# Altium integrated library Microchip SST Flash.IntLib: 291 symbols (part 1 of 37)
Pins are listed as number, name and electrical type; pins without a type are passive.

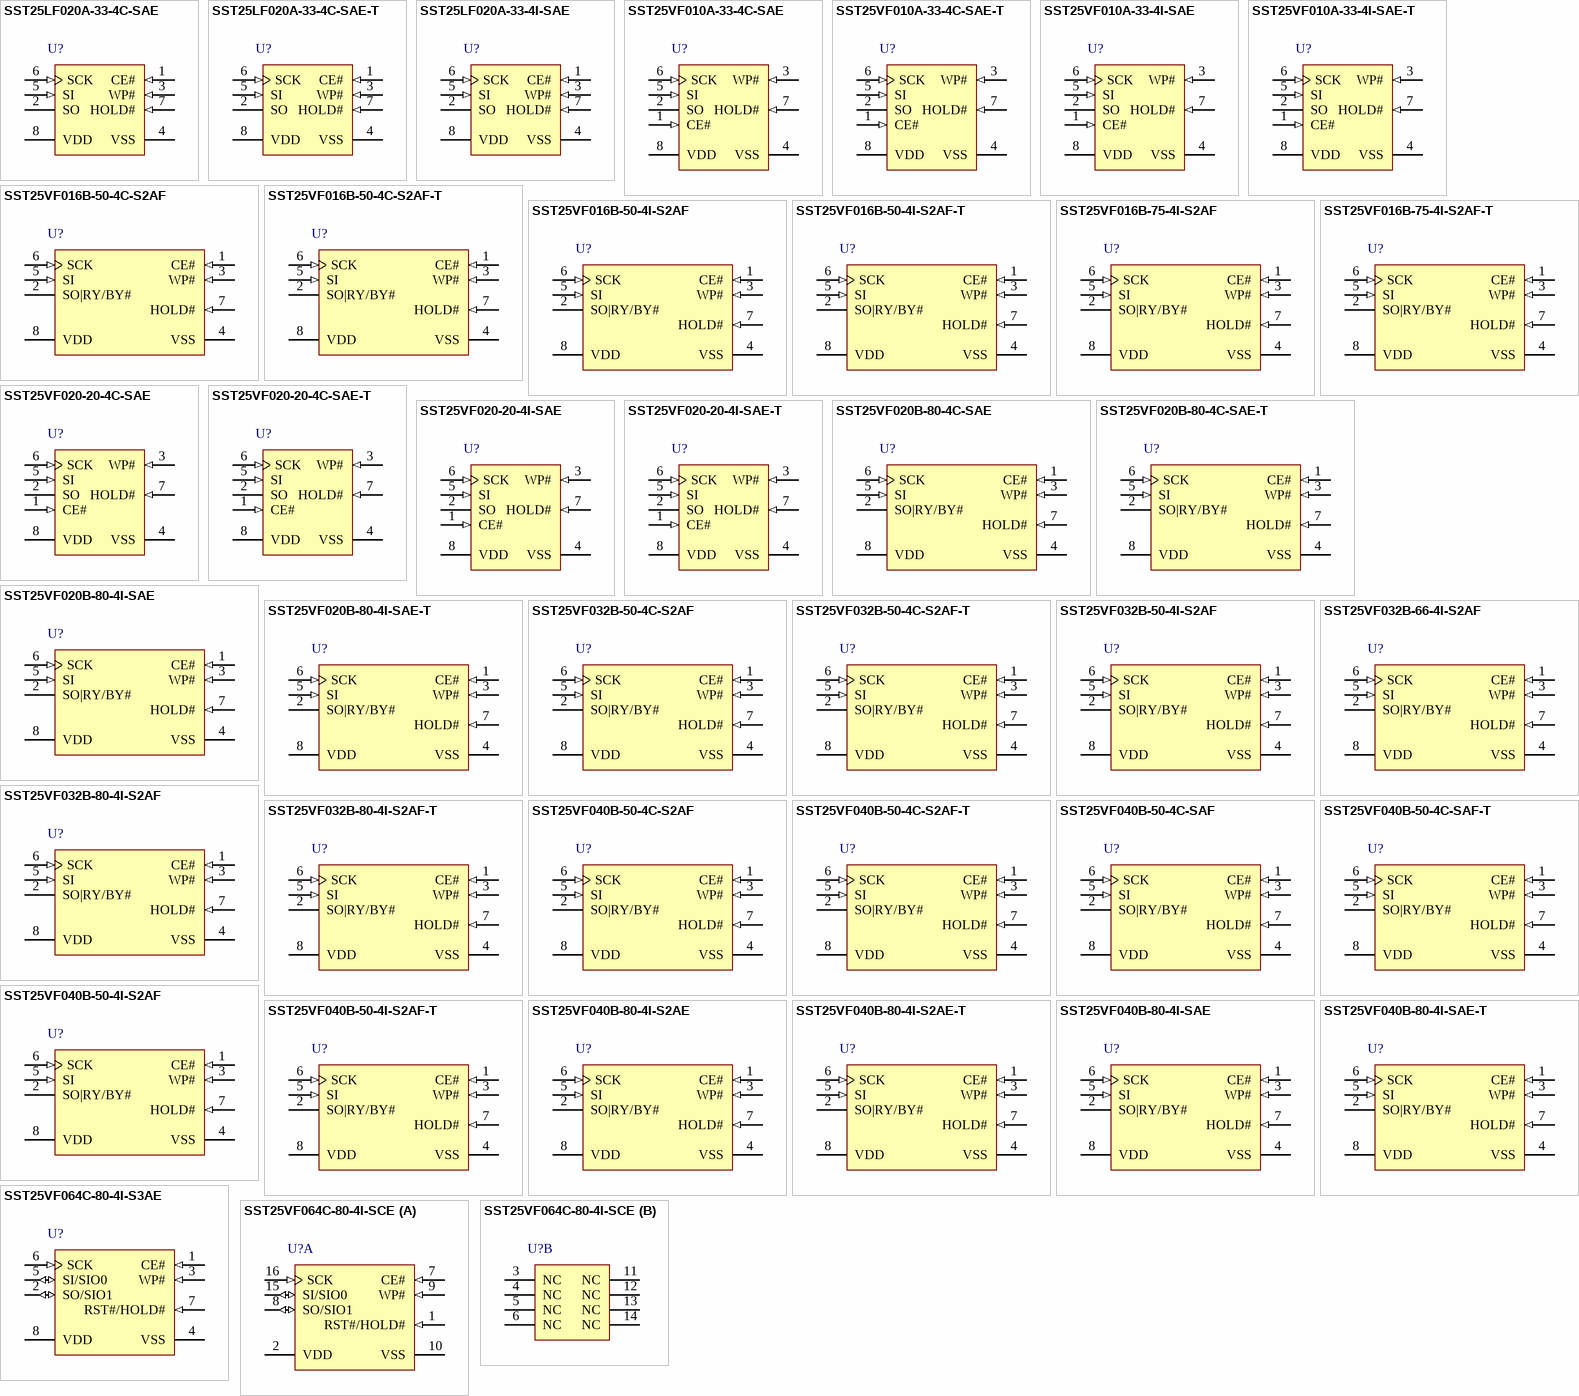
[diagram p0: symbols SST25LF020A-33-4C-SAE to SST25VF064C-80-4I-SCE]

## SST25LF020A-33-4C-SAE
designator U?
2 Mbit SPI Serial Flash, 3 to 3.6 V, 33 MHz, 0 to 70 degC, 8-pin SOIC (SA8), Tube; Manufacturer: Microchip; PartNumber: SST25LF020A-33-4C-SAE; DatasheetVersion: Rev. A; PackageVersion: Rev. A; PackageReference: SOIC-SA8; PackageDescription: 8-Lead Plastic Small Outline, 4.9 x 3.9 mm Body, 1.27 mm Pitch; Supplier 1: Digi-Key; Supplier Part Number 1: SST25LF020A-33-4C-SAE-ND; Mounting Technology: Surface Mount; Code_JEDEC: MS-012; ComponentLink1Description: Manufacturer URL; ComponentLink1URL: http://www.microchip.com; ComponentLink2Description: Datasheet; ComponentLink2URL: http://ww1.microchip.com/downloads/en/DeviceDoc/25080A.pdf; ComponentLink3Description: Package Specification; ComponentLink3URL: http://ww1.microchip.com/downloads/en/DeviceDoc/25080A.pdf; ComponentLink4Description: Product URL; ComponentLink4URL: http://www.microchip.com/SST25LF020A
footprint MCHP-SOIC-SA8_N (SOIC, 8-Leads, Body 4.9x3.9mm, Pitch 1.27mm, IPC Medium Density)
footprint MCHP-SOIC-SA8_L (SOIC, 8-Leads, Body 4.9x3.9mm, Pitch 1.27mm, IPC High Density)
footprint MCHP-SOIC-SA8_M (SOIC, 8-Leads, Body 4.9x3.9mm, Pitch 1.27mm, IPC Low Density)
pins: 1 CE# (in) "The device is enabled by a high to low transition on CE#. CE# must remain low for the duration of any command sequence.", 2 SO (hiz) "To transfer data serially out of the device. Data is shifted out on the falling edge of the serial clock.", 3 WP# (in) "The Write Protect (WP#) pin is used to enable/disable BPL bit in the status register.", 4 VSS (power), 5 SI (in) "To transfer commands, addresses, or data serially into the device. Inputs are latched on the rising edge of the serial clock.", 6 SCK (in) "To provide the timing of the serial interface. Commands, addresses, or input data are latched on the rising edge of the clock input, while output data is shifted out on the falling edge of the clock input.", 7 HOLD# (in) "To temporarily stop serial communication with SPI flash memory without resetting the device.", 8 VDD (power) "To provide power supply (3.0-3.6V)."

## SST25LF020A-33-4C-SAE-T
designator U?
2 Mbit SPI Serial Flash, 3 to 3.6 V, 33 MHz, 0 to 70 degC, 8-pin SOIC (SA8), Tape and Reel; Manufacturer: Microchip; PartNumber: SST25LF020A-33-4C-SAE-T; DatasheetVersion: Rev. A; PackageVersion: Rev. A; PackageReference: SOIC-SA8; PackageDescription: 8-Lead Plastic Small Outline, 4.9 x 3.9 mm Body, 1.27 mm Pitch; Supplier 1: Digi-Key; Supplier Part Number 1: SST25LF020A-33-4C-SAE-T-ND; Mounting Technology: Surface Mount; Code_JEDEC: MS-012; ComponentLink1Description: Manufacturer URL; ComponentLink1URL: http://www.microchip.com; ComponentLink2Description: Datasheet; ComponentLink2URL: http://ww1.microchip.com/downloads/en/DeviceDoc/25080A.pdf; ComponentLink3Description: Package Specification; ComponentLink3URL: http://ww1.microchip.com/downloads/en/DeviceDoc/25080A.pdf; ComponentLink4Description: Product URL; ComponentLink4URL: http://www.microchip.com/SST25LF020A
footprint MCHP-SOIC-SA8_N (SOIC, 8-Leads, Body 4.9x3.9mm, Pitch 1.27mm, IPC Medium Density)
footprint MCHP-SOIC-SA8_L (SOIC, 8-Leads, Body 4.9x3.9mm, Pitch 1.27mm, IPC High Density)
footprint MCHP-SOIC-SA8_M (SOIC, 8-Leads, Body 4.9x3.9mm, Pitch 1.27mm, IPC Low Density)
pins: 1 CE# (in) "The device is enabled by a high to low transition on CE#. CE# must remain low for the duration of any command sequence.", 2 SO (hiz) "To transfer data serially out of the device. Data is shifted out on the falling edge of the serial clock.", 3 WP# (in) "The Write Protect (WP#) pin is used to enable/disable BPL bit in the status register.", 4 VSS (power), 5 SI (in) "To transfer commands, addresses, or data serially into the device. Inputs are latched on the rising edge of the serial clock.", 6 SCK (in) "To provide the timing of the serial interface. Commands, addresses, or input data are latched on the rising edge of the clock input, while output data is shifted out on the falling edge of the clock input.", 7 HOLD# (in) "To temporarily stop serial communication with SPI flash memory without resetting the device.", 8 VDD (power) "To provide power supply (3.0-3.6V)."

## SST25LF020A-33-4I-SAE
designator U?
2 Mbit SPI Serial Flash, 3 to 3.6 V, 33 MHz, -40 to 85 degC, 8-pin SOIC (SA8), Tube; Manufacturer: Microchip; PartNumber: SST25LF020A-33-4I-SAE; DatasheetVersion: Rev. A; PackageVersion: Rev. A; PackageReference: SOIC-SA8; PackageDescription: 8-Lead Plastic Small Outline, 4.9 x 3.9 mm Body, 1.27 mm Pitch; Supplier 1: Digi-Key; Supplier Part Number 1: SST25LF020A-33-4I-SAE-ND; Mounting Technology: Surface Mount; Code_JEDEC: MS-012; ComponentLink1Description: Manufacturer URL; ComponentLink1URL: http://www.microchip.com; ComponentLink2Description: Datasheet; ComponentLink2URL: http://ww1.microchip.com/downloads/en/DeviceDoc/25080A.pdf; ComponentLink3Description: Package Specification; ComponentLink3URL: http://ww1.microchip.com/downloads/en/DeviceDoc/25080A.pdf; ComponentLink4Description: Product URL; ComponentLink4URL: http://www.microchip.com/SST25LF020A
footprint MCHP-SOIC-SA8_N (SOIC, 8-Leads, Body 4.9x3.9mm, Pitch 1.27mm, IPC Medium Density)
footprint MCHP-SOIC-SA8_L (SOIC, 8-Leads, Body 4.9x3.9mm, Pitch 1.27mm, IPC High Density)
footprint MCHP-SOIC-SA8_M (SOIC, 8-Leads, Body 4.9x3.9mm, Pitch 1.27mm, IPC Low Density)
pins: 1 CE# (in) "The device is enabled by a high to low transition on CE#. CE# must remain low for the duration of any command sequence.", 2 SO (hiz) "To transfer data serially out of the device. Data is shifted out on the falling edge of the serial clock.", 3 WP# (in) "The Write Protect (WP#) pin is used to enable/disable BPL bit in the status register.", 4 VSS (power), 5 SI (in) "To transfer commands, addresses, or data serially into the device. Inputs are latched on the rising edge of the serial clock.", 6 SCK (in) "To provide the timing of the serial interface. Commands, addresses, or input data are latched on the rising edge of the clock input, while output data is shifted out on the falling edge of the clock input.", 7 HOLD# (in) "To temporarily stop serial communication with SPI flash memory without resetting the device.", 8 VDD (power) "To provide power supply (3.0-3.6V)."

## SST25VF010A-33-4C-SAE
designator U?
1 Mbit SPI Serial Flash, 2.7 to 3.6 V, 33 MHz, 0 to 70 degC, 8-pin SOIC (SA8), Tube; Manufacturer: Microchip; PartNumber: SST25VF010A-33-4C-SAE; DatasheetVersion: Rev. A; PackageVersion: Rev. A; PackageReference: SOIC-SA8; PackageDescription: 8-Lead Plastic Small Outline, 4.9 x 3.9 mm Body, 1.27 mm Pitch; Supplier 1: Digi-Key; Supplier Part Number 1: SST25VF010A-33-4C-SAE-ND; Mounting Technology: Surface Mount; Code_JEDEC: MS-012; ComponentLink1Description: Manufacturer URL; ComponentLink1URL: http://www.microchip.com; ComponentLink2Description: Datasheet; ComponentLink2URL: http://ww1.microchip.com/downloads/en/DeviceDoc/25081A.pdf; ComponentLink3Description: Package Specification; ComponentLink3URL: http://ww1.microchip.com/downloads/en/DeviceDoc/25080A.pdf; ComponentLink4Description: Product URL; ComponentLink4URL: http://www.microchip.com/SST25VF010A
footprint MCHP-SOIC-SA8_N (SOIC, 8-Leads, Body 4.9x3.9mm, Pitch 1.27mm, IPC Medium Density)
footprint MCHP-SOIC-SA8_L (SOIC, 8-Leads, Body 4.9x3.9mm, Pitch 1.27mm, IPC High Density)
footprint MCHP-SOIC-SA8_M (SOIC, 8-Leads, Body 4.9x3.9mm, Pitch 1.27mm, IPC Low Density)
pins: 1 CE# (in) "The device is enabled by a high to low transition on CE#. CE# must remain low for the duration of any command sequence.", 2 SO (hiz) "To transfer data serially out of the device. Data is shifted out on the falling edge of the serial clock.", 3 WP# (in) "The Write Protect (WP#) pin is used to enable/disable BPL bit in the status register.", 4 VSS (power) "Ground", 5 SI (in) "To transfer commands, addresses, or data serially into the device. Inputs are latched on the rising edge of the serial clock.", 6 SCK (in) "To provide the timing of the serial interface. Commands, addresses, or input data are latched on the rising edge of the clock input, while output data is shifted out on the falling edge of the clock input.", 7 HOLD# (in) "To temporarily stop serial communication with SPI flash memory without resetting the device.", 8 VDD (power) "To provide power supply (2.7-3.6V)."

## SST25VF010A-33-4C-SAE-T
designator U?
1 Mbit SPI Serial Flash, 2.7 to 3.6 V, 33 MHz, 0 to 70 degC, 8-pin SOIC (SA8), Tape and Reel; Manufacturer: Microchip; PartNumber: SST25VF010A-33-4C-SAE-T; DatasheetVersion: Rev. A; PackageVersion: Rev. A; PackageReference: SOIC-SA8; PackageDescription: 8-Lead Plastic Small Outline, 4.9 x 3.9 mm Body, 1.27 mm Pitch; Supplier 1: Digi-Key; Supplier Part Number 1: SST25VF010A-33-4C-SAE-T-ND; Mounting Technology: Surface Mount; Code_JEDEC: MS-012; ComponentLink1Description: Manufacturer URL; ComponentLink1URL: http://www.microchip.com; ComponentLink2Description: Datasheet; ComponentLink2URL: http://ww1.microchip.com/downloads/en/DeviceDoc/25081A.pdf; ComponentLink3Description: Package Specification; ComponentLink3URL: http://ww1.microchip.com/downloads/en/DeviceDoc/25080A.pdf; ComponentLink4Description: Product URL; ComponentLink4URL: http://www.microchip.com/SST25VF010A
footprint MCHP-SOIC-SA8_N (SOIC, 8-Leads, Body 4.9x3.9mm, Pitch 1.27mm, IPC Medium Density)
footprint MCHP-SOIC-SA8_L (SOIC, 8-Leads, Body 4.9x3.9mm, Pitch 1.27mm, IPC High Density)
footprint MCHP-SOIC-SA8_M (SOIC, 8-Leads, Body 4.9x3.9mm, Pitch 1.27mm, IPC Low Density)
pins: 1 CE# (in) "The device is enabled by a high to low transition on CE#. CE# must remain low for the duration of any command sequence.", 2 SO (hiz) "To transfer data serially out of the device. Data is shifted out on the falling edge of the serial clock.", 3 WP# (in) "The Write Protect (WP#) pin is used to enable/disable BPL bit in the status register.", 4 VSS (power) "Ground", 5 SI (in) "To transfer commands, addresses, or data serially into the device. Inputs are latched on the rising edge of the serial clock.", 6 SCK (in) "To provide the timing of the serial interface. Commands, addresses, or input data are latched on the rising edge of the clock input, while output data is shifted out on the falling edge of the clock input.", 7 HOLD# (in) "To temporarily stop serial communication with SPI flash memory without resetting the device.", 8 VDD (power) "To provide power supply (2.7-3.6V)."

## SST25VF010A-33-4I-SAE
designator U?
1 Mbit SPI Serial Flash, 2.7 to 3.6 V, 33 MHz, -40 to 85 degC, 8-pin SOIC (SA8), Tube; Manufacturer: Microchip; PartNumber: SST25VF010A-33-4I-SAE; DatasheetVersion: Rev. A; PackageVersion: Rev. A; PackageReference: SOIC-SA8; PackageDescription: 8-Lead Plastic Small Outline, 4.9 x 3.9 mm Body, 1.27 mm Pitch; Supplier 1: Digi-Key; Supplier Part Number 1: SST25VF010A-33-4I-SAE-ND; Mounting Technology: Surface Mount; Code_JEDEC: MS-012; ComponentLink1Description: Manufacturer URL; ComponentLink1URL: http://www.microchip.com; ComponentLink2Description: Datasheet; ComponentLink2URL: http://ww1.microchip.com/downloads/en/DeviceDoc/25081A.pdf; ComponentLink3Description: Package Specification; ComponentLink3URL: http://ww1.microchip.com/downloads/en/DeviceDoc/25080A.pdf; ComponentLink4Description: Product URL; ComponentLink4URL: http://www.microchip.com/SST25VF010A
footprint MCHP-SOIC-SA8_N (SOIC, 8-Leads, Body 4.9x3.9mm, Pitch 1.27mm, IPC Medium Density)
footprint MCHP-SOIC-SA8_L (SOIC, 8-Leads, Body 4.9x3.9mm, Pitch 1.27mm, IPC High Density)
footprint MCHP-SOIC-SA8_M (SOIC, 8-Leads, Body 4.9x3.9mm, Pitch 1.27mm, IPC Low Density)
pins: 1 CE# (in) "The device is enabled by a high to low transition on CE#. CE# must remain low for the duration of any command sequence.", 2 SO (hiz) "To transfer data serially out of the device. Data is shifted out on the falling edge of the serial clock.", 3 WP# (in) "The Write Protect (WP#) pin is used to enable/disable BPL bit in the status register.", 4 VSS (power) "Ground", 5 SI (in) "To transfer commands, addresses, or data serially into the device. Inputs are latched on the rising edge of the serial clock.", 6 SCK (in) "To provide the timing of the serial interface. Commands, addresses, or input data are latched on the rising edge of the clock input, while output data is shifted out on the falling edge of the clock input.", 7 HOLD# (in) "To temporarily stop serial communication with SPI flash memory without resetting the device.", 8 VDD (power) "To provide power supply (2.7-3.6V)."

## SST25VF010A-33-4I-SAE-T
designator U?
1 Mbit SPI Serial Flash, 2.7 to 3.6 V, 33 MHz, -40 to 85 degC, 8-pin SOIC (SA8), Tape and Reel; Manufacturer: Microchip; PartNumber: SST25VF010A-33-4I-SAE-T; DatasheetVersion: Rev. A; PackageVersion: Rev. A; PackageReference: SOIC-SA8; PackageDescription: 8-Lead Plastic Small Outline, 4.9 x 3.9 mm Body, 1.27 mm Pitch; Supplier 1: Digi-Key; Supplier Part Number 1: SST25VF010A-33-4I-SAE-T-ND; Mounting Technology: Surface Mount; Code_JEDEC: MS-012; ComponentLink1Description: Manufacturer URL; ComponentLink1URL: http://www.microchip.com; ComponentLink2Description: Datasheet; ComponentLink2URL: http://ww1.microchip.com/downloads/en/DeviceDoc/25081A.pdf; ComponentLink3Description: Package Specification; ComponentLink3URL: http://ww1.microchip.com/downloads/en/DeviceDoc/25080A.pdf; ComponentLink4Description: Product URL; ComponentLink4URL: http://www.microchip.com/SST25VF010A
footprint MCHP-SOIC-SA8_N (SOIC, 8-Leads, Body 4.9x3.9mm, Pitch 1.27mm, IPC Medium Density)
footprint MCHP-SOIC-SA8_L (SOIC, 8-Leads, Body 4.9x3.9mm, Pitch 1.27mm, IPC High Density)
footprint MCHP-SOIC-SA8_M (SOIC, 8-Leads, Body 4.9x3.9mm, Pitch 1.27mm, IPC Low Density)
pins: 1 CE# (in) "The device is enabled by a high to low transition on CE#. CE# must remain low for the duration of any command sequence.", 2 SO (hiz) "To transfer data serially out of the device. Data is shifted out on the falling edge of the serial clock.", 3 WP# (in) "The Write Protect (WP#) pin is used to enable/disable BPL bit in the status register.", 4 VSS (power) "Ground", 5 SI (in) "To transfer commands, addresses, or data serially into the device. Inputs are latched on the rising edge of the serial clock.", 6 SCK (in) "To provide the timing of the serial interface. Commands, addresses, or input data are latched on the rising edge of the clock input, while output data is shifted out on the falling edge of the clock input.", 7 HOLD# (in) "To temporarily stop serial communication with SPI flash memory without resetting the device.", 8 VDD (power) "To provide power supply (2.7-3.6V)."

## SST25VF016B-50-4C-S2AF
designator U?
16 Mbit SPI Serial Flash, 2.7 to 3.6 V, 50 MHz, 0 to 70 degC, 8-pin SOIC (S2A8), Tube; Manufacturer: Microchip; PartNumber: SST25VF016B-50-4C-S2AF; DatasheetVersion: Rev. A; PackageVersion: Rev. A; PackageReference: SOIC-S2A8; PackageDescription: 8-Lead Plastic Small Outline Intergrated Circuit, 5.275 x 5.275 mm Body, 1.27 mm Pitch; Supplier 1: Digi-Key; Supplier Part Number 1: SST25VF016B-50-4C-S2AF-ND; Mounting Technology: Surface Mount; ComponentLink1Description: Manufacturer URL; ComponentLink1URL: http://www.microchip.com; ComponentLink2Description: Datasheet; ComponentLink2URL: http://ww1.microchip.com/downloads/en/DeviceDoc/25044A.pdf; ComponentLink3Description: Package Specification; ComponentLink3URL: http://ww1.microchip.com/downloads/en/DeviceDoc/25051A.pdf; ComponentLink4Description: Product URL; ComponentLink4URL: http://www.microchip.com/SST25VF016B
footprint MCHP-SOIC-S2A8_N (SOIC, 8-Leads, Body 5.275x5.275mm, Pitch 1.27mm, IPC Medium Density)
footprint MCHP-SOIC-S2A8_L (SOIC, 8-Leads, Body 5.275x5.275mm, Pitch 1.27mm, IPC High Density)
footprint MCHP-SOIC-S2A8_M (SOIC, 8-Leads, Body 5.275x5.275mm, Pitch 1.27mm, IPC Low Density)
pins: 1 CE# (in) "The device is enabled by a high to low transition on CE#. CE# must remain low for the duration of any command sequence.", 2 SO|RY/BY# (hiz), 3 WP# (in) "The Write Protect (WP#) pin is used to enable/disable BPL bit in the status register.", 4 VSS (power) "Ground", 5 SI (in) "To transfer commands, addresses, or data serially into the device. Inputs are latched on the rising edge of the serial clock.", 6 SCK (in) "To provide the timing of the serial interface. Commands, addresses, or input data are latched on the rising edge of the clock input, while output data is shifted out on the falling edge of the clock input.", 7 HOLD# (in) "To temporarily stop serial communication with SPI flash memory without resetting the device.", 8 VDD (power) "To provide power supply (2.7-3.6V)."

## SST25VF016B-50-4C-S2AF-T
designator U?
16 Mbit SPI Serial Flash, 2.7 to 3.6 V, 50 MHz, 0 to 70 degC, 8-pin SOIC (S2A8), Tape and Reel; Manufacturer: Microchip; PartNumber: SST25VF016B-50-4C-S2AF-T; DatasheetVersion: Rev. A; PackageVersion: Rev. A; PackageReference: SOIC-S2A8; PackageDescription: 8-Lead Plastic Small Outline Intergrated Circuit, 5.275 x 5.275 mm Body, 1.27 mm Pitch; Supplier 1: Digi-Key; Supplier Part Number 1: SST25VF016B-50-4C-S2AF-T-ND; Mounting Technology: Surface Mount; ComponentLink1Description: Manufacturer URL; ComponentLink1URL: http://www.microchip.com; ComponentLink2Description: Datasheet; ComponentLink2URL: http://ww1.microchip.com/downloads/en/DeviceDoc/25044A.pdf; ComponentLink3Description: Package Specification; ComponentLink3URL: http://ww1.microchip.com/downloads/en/DeviceDoc/25051A.pdf; ComponentLink4Description: Product URL; ComponentLink4URL: http://www.microchip.com/SST25VF016B
footprint MCHP-SOIC-S2A8_N (SOIC, 8-Leads, Body 5.275x5.275mm, Pitch 1.27mm, IPC Medium Density)
footprint MCHP-SOIC-S2A8_L (SOIC, 8-Leads, Body 5.275x5.275mm, Pitch 1.27mm, IPC High Density)
footprint MCHP-SOIC-S2A8_M (SOIC, 8-Leads, Body 5.275x5.275mm, Pitch 1.27mm, IPC Low Density)
pins: 1 CE# (in) "The device is enabled by a high to low transition on CE#. CE# must remain low for the duration of any command sequence.", 2 SO|RY/BY# (hiz), 3 WP# (in) "The Write Protect (WP#) pin is used to enable/disable BPL bit in the status register.", 4 VSS (power) "Ground", 5 SI (in) "To transfer commands, addresses, or data serially into the device. Inputs are latched on the rising edge of the serial clock.", 6 SCK (in) "To provide the timing of the serial interface. Commands, addresses, or input data are latched on the rising edge of the clock input, while output data is shifted out on the falling edge of the clock input.", 7 HOLD# (in) "To temporarily stop serial communication with SPI flash memory without resetting the device.", 8 VDD (power) "To provide power supply (2.7-3.6V)."

## SST25VF016B-50-4I-S2AF
designator U?
16 Mbit SPI Serial Flash, 2.7 to 3.6 V, 50 MHz, -40 to 85 degC, 8-pin SOIC (S2A8), Tube; Manufacturer: Microchip; PartNumber: SST25VF016B-50-4I-S2AF; DatasheetVersion: Rev. A; PackageVersion: Rev. A; PackageReference: SOIC-S2A8; PackageDescription: 8-Lead Plastic Small Outline Intergrated Circuit, 5.275 x 5.275 mm Body, 1.27 mm Pitch; Supplier 1: Digi-Key; Supplier Part Number 1: SST25VF016B-50-4I-S2AF-ND; Mounting Technology: Surface Mount; ComponentLink1Description: Manufacturer URL; ComponentLink1URL: http://www.microchip.com; ComponentLink2Description: Datasheet; ComponentLink2URL: http://ww1.microchip.com/downloads/en/DeviceDoc/25044A.pdf; ComponentLink3Description: Package Specification; ComponentLink3URL: http://ww1.microchip.com/downloads/en/DeviceDoc/25051A.pdf; ComponentLink4Description: Product URL; ComponentLink4URL: http://www.microchip.com/SST25VF016B
footprint MCHP-SOIC-S2A8_N (SOIC, 8-Leads, Body 5.275x5.275mm, Pitch 1.27mm, IPC Medium Density)
footprint MCHP-SOIC-S2A8_L (SOIC, 8-Leads, Body 5.275x5.275mm, Pitch 1.27mm, IPC High Density)
footprint MCHP-SOIC-S2A8_M (SOIC, 8-Leads, Body 5.275x5.275mm, Pitch 1.27mm, IPC Low Density)
pins: 1 CE# (in) "The device is enabled by a high to low transition on CE#. CE# must remain low for the duration of any command sequence.", 2 SO|RY/BY# (hiz), 3 WP# (in) "The Write Protect (WP#) pin is used to enable/disable BPL bit in the status register.", 4 VSS (power) "Ground", 5 SI (in) "To transfer commands, addresses, or data serially into the device. Inputs are latched on the rising edge of the serial clock.", 6 SCK (in) "To provide the timing of the serial interface. Commands, addresses, or input data are latched on the rising edge of the clock input, while output data is shifted out on the falling edge of the clock input.", 7 HOLD# (in) "To temporarily stop serial communication with SPI flash memory without resetting the device.", 8 VDD (power) "To provide power supply (2.7-3.6V)."

## SST25VF016B-50-4I-S2AF-T
designator U?
16 Mbit SPI Serial Flash, 2.7 to 3.6 V, 50 MHz, -40 to 85 degC, 8-pin SOIC (S2A8), Tape and Reel; Manufacturer: Microchip; PartNumber: SST25VF016B-50-4I-S2AF-T; DatasheetVersion: Rev. A; PackageVersion: Rev. A; PackageReference: SOIC-S2A8; PackageDescription: 8-Lead Plastic Small Outline Intergrated Circuit, 5.275 x 5.275 mm Body, 1.27 mm Pitch; Supplier 1: Digi-Key; Supplier Part Number 1: SST25VF016B-50-4I-S2AF-T-ND; Mounting Technology: Surface Mount; ComponentLink1Description: Manufacturer URL; ComponentLink1URL: http://www.microchip.com; ComponentLink2Description: Datasheet; ComponentLink2URL: http://ww1.microchip.com/downloads/en/DeviceDoc/25044A.pdf; ComponentLink3Description: Package Specification; ComponentLink3URL: http://ww1.microchip.com/downloads/en/DeviceDoc/25051A.pdf; ComponentLink4Description: Product URL; ComponentLink4URL: http://www.microchip.com/SST25VF016B
footprint MCHP-SOIC-S2A8_N (SOIC, 8-Leads, Body 5.275x5.275mm, Pitch 1.27mm, IPC Medium Density)
footprint MCHP-SOIC-S2A8_L (SOIC, 8-Leads, Body 5.275x5.275mm, Pitch 1.27mm, IPC High Density)
footprint MCHP-SOIC-S2A8_M (SOIC, 8-Leads, Body 5.275x5.275mm, Pitch 1.27mm, IPC Low Density)
pins: 1 CE# (in) "The device is enabled by a high to low transition on CE#. CE# must remain low for the duration of any command sequence.", 2 SO|RY/BY# (hiz), 3 WP# (in) "The Write Protect (WP#) pin is used to enable/disable BPL bit in the status register.", 4 VSS (power) "Ground", 5 SI (in) "To transfer commands, addresses, or data serially into the device. Inputs are latched on the rising edge of the serial clock.", 6 SCK (in) "To provide the timing of the serial interface. Commands, addresses, or input data are latched on the rising edge of the clock input, while output data is shifted out on the falling edge of the clock input.", 7 HOLD# (in) "To temporarily stop serial communication with SPI flash memory without resetting the device.", 8 VDD (power) "To provide power supply (2.7-3.6V)."

## SST25VF016B-75-4I-S2AF
designator U?
16 Mbit SPI Serial Flash, 2.7 to 3.6 V, 80 MHz, -40 to 85 degC, 8-pin SOIC (S2A8), Tube; Manufacturer: Microchip; PartNumber: SST25VF016B-75-4I-S2AF; DatasheetVersion: Rev. A; PackageVersion: Rev. A; PackageReference: SOIC-S2A8; PackageDescription: 8-Lead Plastic Small Outline Intergrated Circuit, 5.275 x 5.275 mm Body, 1.27 mm Pitch; Supplier 1: Digi-Key; Supplier Part Number 1: SST25VF016B-75-4I-S2AF-ND; Mounting Technology: Surface Mount; ComponentLink1Description: Manufacturer URL; ComponentLink1URL: http://www.microchip.com; ComponentLink2Description: Datasheet; ComponentLink2URL: http://ww1.microchip.com/downloads/en/DeviceDoc/25044A.pdf; ComponentLink3Description: Package Specification; ComponentLink3URL: http://ww1.microchip.com/downloads/en/DeviceDoc/25051A.pdf; ComponentLink4Description: Product URL; ComponentLink4URL: http://www.microchip.com/SST25VF016B
footprint MCHP-SOIC-S2A8_N (SOIC, 8-Leads, Body 5.275x5.275mm, Pitch 1.27mm, IPC Medium Density)
footprint MCHP-SOIC-S2A8_L (SOIC, 8-Leads, Body 5.275x5.275mm, Pitch 1.27mm, IPC High Density)
footprint MCHP-SOIC-S2A8_M (SOIC, 8-Leads, Body 5.275x5.275mm, Pitch 1.27mm, IPC Low Density)
pins: 1 CE# (in) "The device is enabled by a high to low transition on CE#. CE# must remain low for the duration of any command sequence.", 2 SO|RY/BY# (hiz), 3 WP# (in) "The Write Protect (WP#) pin is used to enable/disable BPL bit in the status register.", 4 VSS (power) "Ground", 5 SI (in) "To transfer commands, addresses, or data serially into the device. Inputs are latched on the rising edge of the serial clock.", 6 SCK (in) "To provide the timing of the serial interface. Commands, addresses, or input data are latched on the rising edge of the clock input, while output data is shifted out on the falling edge of the clock input.", 7 HOLD# (in) "To temporarily stop serial communication with SPI flash memory without resetting the device.", 8 VDD (power) "To provide power supply (2.7-3.6V)."

## SST25VF016B-75-4I-S2AF-T
designator U?
16 Mbit SPI Serial Flash, 2.7 to 3.6 V, 80 MHz, -40 to 85 degC, 8-pin SOIC (S2A8), Tape and Reel; Manufacturer: Microchip; PartNumber: SST25VF016B-75-4I-S2AF-T; DatasheetVersion: Rev. A; PackageVersion: Rev. A; PackageReference: SOIC-S2A8; PackageDescription: 8-Lead Plastic Small Outline Intergrated Circuit, 5.275 x 5.275 mm Body, 1.27 mm Pitch; Supplier 1: Digi-Key; Supplier Part Number 1: SST25VF016B-75-4I-S2AF-T-ND; Mounting Technology: Surface Mount; ComponentLink1Description: Manufacturer URL; ComponentLink1URL: http://www.microchip.com; ComponentLink2Description: Datasheet; ComponentLink2URL: http://ww1.microchip.com/downloads/en/DeviceDoc/25044A.pdf; ComponentLink3Description: Package Specification; ComponentLink3URL: http://ww1.microchip.com/downloads/en/DeviceDoc/25051A.pdf; ComponentLink4Description: Product URL; ComponentLink4URL: http://www.microchip.com/SST25VF016B
footprint MCHP-SOIC-S2A8_N (SOIC, 8-Leads, Body 5.275x5.275mm, Pitch 1.27mm, IPC Medium Density)
footprint MCHP-SOIC-S2A8_L (SOIC, 8-Leads, Body 5.275x5.275mm, Pitch 1.27mm, IPC High Density)
footprint MCHP-SOIC-S2A8_M (SOIC, 8-Leads, Body 5.275x5.275mm, Pitch 1.27mm, IPC Low Density)
pins: 1 CE# (in) "The device is enabled by a high to low transition on CE#. CE# must remain low for the duration of any command sequence.", 2 SO|RY/BY# (hiz), 3 WP# (in) "The Write Protect (WP#) pin is used to enable/disable BPL bit in the status register.", 4 VSS (power) "Ground", 5 SI (in) "To transfer commands, addresses, or data serially into the device. Inputs are latched on the rising edge of the serial clock.", 6 SCK (in) "To provide the timing of the serial interface. Commands, addresses, or input data are latched on the rising edge of the clock input, while output data is shifted out on the falling edge of the clock input.", 7 HOLD# (in) "To temporarily stop serial communication with SPI flash memory without resetting the device.", 8 VDD (power) "To provide power supply (2.7-3.6V)."

## SST25VF020-20-4C-SAE
designator U?
2 Mbit SPI Serial Flash, 2.7 to 3.6 V, 20 MHz, 0 to 70 degC, 8-pin SOIC (SA8), Tube; Manufacturer: Microchip; PartNumber: SST25VF020-20-4C-SAE; DatasheetVersion: Rev. A; PackageVersion: Rev. A; PackageReference: SOIC-SA8; PackageDescription: 8-Lead Plastic Small Outline, 4.9 x 3.9 mm Body, 1.27 mm Pitch; Supplier 1: Digi-Key; Supplier Part Number 1: SST25VF020-20-4C-SAE-ND; Mounting Technology: Surface Mount; Code_JEDEC: MS-012; ComponentLink1Description: Manufacturer URL; ComponentLink1URL: http://www.microchip.com; ComponentLink2Description: Datasheet; ComponentLink2URL: http://ww1.microchip.com/downloads/en/DeviceDoc/25078A.pdf; ComponentLink3Description: Package Specification; ComponentLink3URL: http://ww1.microchip.com/downloads/en/DeviceDoc/25080A.pdf; ComponentLink4Description: Product URL; ComponentLink4URL: http://www.microchip.com/SST25VF020
footprint MCHP-SOIC-SA8_N (SOIC, 8-Leads, Body 4.9x3.9mm, Pitch 1.27mm, IPC Medium Density)
footprint MCHP-SOIC-SA8_L (SOIC, 8-Leads, Body 4.9x3.9mm, Pitch 1.27mm, IPC High Density)
footprint MCHP-SOIC-SA8_M (SOIC, 8-Leads, Body 4.9x3.9mm, Pitch 1.27mm, IPC Low Density)
pins: 1 CE# (in) "The device is enabled by a high to low transition on CE#. CE# must remain low for the duration of any command sequence.", 2 SO (hiz) "To transfer data serially out of the device. Data is shifted out on the falling edge of the serial clock.", 3 WP# (in) "The Write Protect (WP#) pin is used to enable/disable BPL bit in the status register.", 4 VSS (power) "Ground", 5 SI (in) "To transfer commands, addresses, or data serially into the device. Inputs are latched on the rising edge of the serial clock.", 6 SCK (in) "To provide the timing of the serial interface. Commands, addresses, or input data are latched on the rising edge of the clock input, while output data is shifted out on the falling edge of the clock input.", 7 HOLD# (in) "To temporarily stop serial communication with SPI flash memory without resetting the device.", 8 VDD (power) "To provide power supply (2.7-3.6V)."

## SST25VF020-20-4C-SAE-T
designator U?
2 Mbit SPI Serial Flash, 2.7 to 3.6 V, 20 MHz, 0 to 70 degC, 8-pin SOIC (SA8), Tape and Reel; Manufacturer: Microchip; PartNumber: SST25VF020-20-4C-SAE-T; DatasheetVersion: Rev. A; PackageVersion: Rev. A; PackageReference: SOIC-SA8; PackageDescription: 8-Lead Plastic Small Outline, 4.9 x 3.9 mm Body, 1.27 mm Pitch; Supplier 1: Digi-Key; Supplier Part Number 1: SST25VF020-20-4C-SAE-T-ND; Mounting Technology: Surface Mount; Code_JEDEC: MS-012; ComponentLink1Description: Manufacturer URL; ComponentLink1URL: http://www.microchip.com; ComponentLink2Description: Datasheet; ComponentLink2URL: http://ww1.microchip.com/downloads/en/DeviceDoc/25078A.pdf; ComponentLink3Description: Package Specification; ComponentLink3URL: http://ww1.microchip.com/downloads/en/DeviceDoc/25080A.pdf; ComponentLink4Description: Product URL; ComponentLink4URL: http://www.microchip.com/SST25VF020
footprint MCHP-SOIC-SA8_N (SOIC, 8-Leads, Body 4.9x3.9mm, Pitch 1.27mm, IPC Medium Density)
footprint MCHP-SOIC-SA8_L (SOIC, 8-Leads, Body 4.9x3.9mm, Pitch 1.27mm, IPC High Density)
footprint MCHP-SOIC-SA8_M (SOIC, 8-Leads, Body 4.9x3.9mm, Pitch 1.27mm, IPC Low Density)
pins: 1 CE# (in) "The device is enabled by a high to low transition on CE#. CE# must remain low for the duration of any command sequence.", 2 SO (hiz) "To transfer data serially out of the device. Data is shifted out on the falling edge of the serial clock.", 3 WP# (in) "The Write Protect (WP#) pin is used to enable/disable BPL bit in the status register.", 4 VSS (power) "Ground", 5 SI (in) "To transfer commands, addresses, or data serially into the device. Inputs are latched on the rising edge of the serial clock.", 6 SCK (in) "To provide the timing of the serial interface. Commands, addresses, or input data are latched on the rising edge of the clock input, while output data is shifted out on the falling edge of the clock input.", 7 HOLD# (in) "To temporarily stop serial communication with SPI flash memory without resetting the device.", 8 VDD (power) "To provide power supply (2.7-3.6V)."

## SST25VF020-20-4I-SAE
designator U?
2 Mbit SPI Serial Flash, 2.7 to 3.6 V, 20 MHz, -40 to 85 degC, 8-pin SOIC (SA8), Tube; Manufacturer: Microchip; PartNumber: SST25VF020-20-4I-SAE; DatasheetVersion: Rev. A; PackageVersion: Rev. A; PackageReference: SOIC-SA8; PackageDescription: 8-Lead Plastic Small Outline, 4.9 x 3.9 mm Body, 1.27 mm Pitch; Supplier 1: Digi-Key; Supplier Part Number 1: SST25VF020-20-4I-SAE-ND; Mounting Technology: Surface Mount; Code_JEDEC: MS-012; ComponentLink1Description: Manufacturer URL; ComponentLink1URL: http://www.microchip.com; ComponentLink2Description: Datasheet; ComponentLink2URL: http://ww1.microchip.com/downloads/en/DeviceDoc/25078A.pdf; ComponentLink3Description: Package Specification; ComponentLink3URL: http://ww1.microchip.com/downloads/en/DeviceDoc/25080A.pdf; ComponentLink4Description: Product URL; ComponentLink4URL: http://www.microchip.com/SST25VF020
footprint MCHP-SOIC-SA8_N (SOIC, 8-Leads, Body 4.9x3.9mm, Pitch 1.27mm, IPC Medium Density)
footprint MCHP-SOIC-SA8_L (SOIC, 8-Leads, Body 4.9x3.9mm, Pitch 1.27mm, IPC High Density)
footprint MCHP-SOIC-SA8_M (SOIC, 8-Leads, Body 4.9x3.9mm, Pitch 1.27mm, IPC Low Density)
pins: 1 CE# (in) "The device is enabled by a high to low transition on CE#. CE# must remain low for the duration of any command sequence.", 2 SO (hiz) "To transfer data serially out of the device. Data is shifted out on the falling edge of the serial clock.", 3 WP# (in) "The Write Protect (WP#) pin is used to enable/disable BPL bit in the status register.", 4 VSS (power) "Ground", 5 SI (in) "To transfer commands, addresses, or data serially into the device. Inputs are latched on the rising edge of the serial clock.", 6 SCK (in) "To provide the timing of the serial interface. Commands, addresses, or input data are latched on the rising edge of the clock input, while output data is shifted out on the falling edge of the clock input.", 7 HOLD# (in) "To temporarily stop serial communication with SPI flash memory without resetting the device.", 8 VDD (power) "To provide power supply (2.7-3.6V)."

## SST25VF020-20-4I-SAE-T
designator U?
2 Mbit SPI Serial Flash, 2.7 to 3.6 V, 20 MHz, -40 to 85 degC, 8-pin SOIC (SA8), Tape and Reel; Manufacturer: Microchip; PartNumber: SST25VF020-20-4I-SAE-T; DatasheetVersion: Rev. A; PackageVersion: Rev. A; PackageReference: SOIC-SA8; PackageDescription: 8-Lead Plastic Small Outline, 4.9 x 3.9 mm Body, 1.27 mm Pitch; Supplier 1: Digi-Key; Supplier Part Number 1: SST25VF020-20-4I-SAE-T-ND; Mounting Technology: Surface Mount; Code_JEDEC: MS-012; ComponentLink1Description: Manufacturer URL; ComponentLink1URL: http://www.microchip.com; ComponentLink2Description: Datasheet; ComponentLink2URL: http://ww1.microchip.com/downloads/en/DeviceDoc/25078A.pdf; ComponentLink3Description: Package Specification; ComponentLink3URL: http://ww1.microchip.com/downloads/en/DeviceDoc/25080A.pdf; ComponentLink4Description: Product URL; ComponentLink4URL: http://www.microchip.com/SST25VF020
footprint MCHP-SOIC-SA8_N (SOIC, 8-Leads, Body 4.9x3.9mm, Pitch 1.27mm, IPC Medium Density)
footprint MCHP-SOIC-SA8_L (SOIC, 8-Leads, Body 4.9x3.9mm, Pitch 1.27mm, IPC High Density)
footprint MCHP-SOIC-SA8_M (SOIC, 8-Leads, Body 4.9x3.9mm, Pitch 1.27mm, IPC Low Density)
pins: 1 CE# (in) "The device is enabled by a high to low transition on CE#. CE# must remain low for the duration of any command sequence.", 2 SO (hiz) "To transfer data serially out of the device. Data is shifted out on the falling edge of the serial clock.", 3 WP# (in) "The Write Protect (WP#) pin is used to enable/disable BPL bit in the status register.", 4 VSS (power) "Ground", 5 SI (in) "To transfer commands, addresses, or data serially into the device. Inputs are latched on the rising edge of the serial clock.", 6 SCK (in) "To provide the timing of the serial interface. Commands, addresses, or input data are latched on the rising edge of the clock input, while output data is shifted out on the falling edge of the clock input.", 7 HOLD# (in) "To temporarily stop serial communication with SPI flash memory without resetting the device.", 8 VDD (power) "To provide power supply (2.7-3.6V)."

## SST25VF020B-80-4C-SAE
designator U?
2 Mbit SPI Serial Flash, 2.7 to 3.6 V, 80 MHz, 0 to 70 degC, 8-pin SOIC (SA8), Tube; Manufacturer: Microchip; PartNumber: SST25VF020B-80-4C-SAE; DatasheetVersion: Rev. B; PackageVersion: Rev. A; PackageReference: SOIC-SA8; PackageDescription: 8-Lead Plastic Small Outline, 4.9 x 3.9 mm Body, 1.27 mm Pitch; Supplier 1: Digi-Key; Supplier Part Number 1: SST25VF020B-80-4C-SAE-ND; Mounting Technology: Surface Mount; Code_JEDEC: MS-012; ComponentLink1Description: Manufacturer URL; ComponentLink1URL: http://www.microchip.com; ComponentLink2Description: Datasheet; ComponentLink2URL: http://ww1.microchip.com/downloads/en/DeviceDoc/25054B.pdf; ComponentLink3Description: Package Specification; ComponentLink3URL: http://ww1.microchip.com/downloads/en/DeviceDoc/25080A.pdf; ComponentLink4Description: Product URL; ComponentLink4URL: http://www.microchip.com/SST25VF020B
footprint MCHP-SOIC-SA8_N (SOIC, 8-Leads, Body 4.9x3.9mm, Pitch 1.27mm, IPC Medium Density)
footprint MCHP-SOIC-SA8_L (SOIC, 8-Leads, Body 4.9x3.9mm, Pitch 1.27mm, IPC High Density)
footprint MCHP-SOIC-SA8_M (SOIC, 8-Leads, Body 4.9x3.9mm, Pitch 1.27mm, IPC Low Density)
pins: 1 CE# (in) "The device is enabled by a high to low transition on CE#. CE# must remain low for the duration of any command sequence.", 2 SO|RY/BY# (hiz), 3 WP# (in) "The Write Protect (WP#) pin is used to enable/disable BPL bit in the status register.", 4 VSS (power) "Ground", 5 SI (in) "To transfer commands, addresses, or data serially into the device. Inputs are latched on the rising edge of the serial clock.", 6 SCK (in) "To provide the timing of the serial interface. Commands, addresses, or input data are latched on the rising edge of the clock input, while output data is shifted out on the falling edge of the clock input.", 7 HOLD# (in) "To temporarily stop serial communication with SPI flash memory without resetting the device.", 8 VDD (power) "To provide power supply (2.7-3.6V)."

## SST25VF020B-80-4C-SAE-T
designator U?
2 Mbit SPI Serial Flash, 2.7 to 3.6 V, 80 MHz, 0 to 70 degC, 8-pin SOIC (SA8), Tape and Reel; Manufacturer: Microchip; PartNumber: SST25VF020B-80-4C-SAE-T; DatasheetVersion: Rev. B; PackageVersion: Rev. A; PackageReference: SOIC-SA8; PackageDescription: 8-Lead Plastic Small Outline, 4.9 x 3.9 mm Body, 1.27 mm Pitch; Supplier 1: Digi-Key; Supplier Part Number 1: SST25VF020B-80-4C-SAE-T-ND; Mounting Technology: Surface Mount; Code_JEDEC: MS-012; ComponentLink1Description: Manufacturer URL; ComponentLink1URL: http://www.microchip.com; ComponentLink2Description: Datasheet; ComponentLink2URL: http://ww1.microchip.com/downloads/en/DeviceDoc/25054B.pdf; ComponentLink3Description: Package Specification; ComponentLink3URL: http://ww1.microchip.com/downloads/en/DeviceDoc/25080A.pdf; ComponentLink4Description: Product URL; ComponentLink4URL: http://www.microchip.com/SST25VF020B
footprint MCHP-SOIC-SA8_N (SOIC, 8-Leads, Body 4.9x3.9mm, Pitch 1.27mm, IPC Medium Density)
footprint MCHP-SOIC-SA8_L (SOIC, 8-Leads, Body 4.9x3.9mm, Pitch 1.27mm, IPC High Density)
footprint MCHP-SOIC-SA8_M (SOIC, 8-Leads, Body 4.9x3.9mm, Pitch 1.27mm, IPC Low Density)
pins: 1 CE# (in) "The device is enabled by a high to low transition on CE#. CE# must remain low for the duration of any command sequence.", 2 SO|RY/BY# (hiz), 3 WP# (in) "The Write Protect (WP#) pin is used to enable/disable BPL bit in the status register.", 4 VSS (power) "Ground", 5 SI (in) "To transfer commands, addresses, or data serially into the device. Inputs are latched on the rising edge of the serial clock.", 6 SCK (in) "To provide the timing of the serial interface. Commands, addresses, or input data are latched on the rising edge of the clock input, while output data is shifted out on the falling edge of the clock input.", 7 HOLD# (in) "To temporarily stop serial communication with SPI flash memory without resetting the device.", 8 VDD (power) "To provide power supply (2.7-3.6V)."

## SST25VF020B-80-4I-SAE
designator U?
2 Mbit SPI Serial Flash, 2.7 to 3.6 V, 80 MHz, -40 to 85 degC, 8-pin SOIC (SA8), Tube; Manufacturer: Microchip; PartNumber: SST25VF020B-80-4I-SAE; DatasheetVersion: Rev. B; PackageVersion: Rev. A; PackageReference: SOIC-SA8; PackageDescription: 8-Lead Plastic Small Outline, 4.9 x 3.9 mm Body, 1.27 mm Pitch; Supplier 1: Digi-Key; Supplier Part Number 1: SST25VF020B-80-4I-SAE-ND; Mounting Technology: Surface Mount; Code_JEDEC: MS-012; ComponentLink1Description: Manufacturer URL; ComponentLink1URL: http://www.microchip.com; ComponentLink2Description: Datasheet; ComponentLink2URL: http://ww1.microchip.com/downloads/en/DeviceDoc/25054B.pdf; ComponentLink3Description: Package Specification; ComponentLink3URL: http://ww1.microchip.com/downloads/en/DeviceDoc/25080A.pdf; ComponentLink4Description: Product URL; ComponentLink4URL: http://www.microchip.com/SST25VF020B
footprint MCHP-SOIC-SA8_N (SOIC, 8-Leads, Body 4.9x3.9mm, Pitch 1.27mm, IPC Medium Density)
footprint MCHP-SOIC-SA8_L (SOIC, 8-Leads, Body 4.9x3.9mm, Pitch 1.27mm, IPC High Density)
footprint MCHP-SOIC-SA8_M (SOIC, 8-Leads, Body 4.9x3.9mm, Pitch 1.27mm, IPC Low Density)
pins: 1 CE# (in) "The device is enabled by a high to low transition on CE#. CE# must remain low for the duration of any command sequence.", 2 SO|RY/BY# (hiz), 3 WP# (in) "The Write Protect (WP#) pin is used to enable/disable BPL bit in the status register.", 4 VSS (power) "Ground", 5 SI (in) "To transfer commands, addresses, or data serially into the device. Inputs are latched on the rising edge of the serial clock.", 6 SCK (in) "To provide the timing of the serial interface. Commands, addresses, or input data are latched on the rising edge of the clock input, while output data is shifted out on the falling edge of the clock input.", 7 HOLD# (in) "To temporarily stop serial communication with SPI flash memory without resetting the device.", 8 VDD (power) "To provide power supply (2.7-3.6V)."

## SST25VF020B-80-4I-SAE-T
designator U?
2 Mbit SPI Serial Flash, 2.7 to 3.6 V, 80 MHz, -40 to 85 degC, 8-pin SOIC (SA8), Tape and Reel; Manufacturer: Microchip; PartNumber: SST25VF020B-80-4I-SAE-T; DatasheetVersion: Rev. B; PackageVersion: Rev. A; PackageReference: SOIC-SA8; PackageDescription: 8-Lead Plastic Small Outline, 4.9 x 3.9 mm Body, 1.27 mm Pitch; Supplier 1: Digi-Key; Supplier Part Number 1: SST25VF020B-80-4I-SAE-T-ND; Mounting Technology: Surface Mount; Code_JEDEC: MS-012; ComponentLink1Description: Manufacturer URL; ComponentLink1URL: http://www.microchip.com; ComponentLink2Description: Datasheet; ComponentLink2URL: http://ww1.microchip.com/downloads/en/DeviceDoc/25054B.pdf; ComponentLink3Description: Package Specification; ComponentLink3URL: http://ww1.microchip.com/downloads/en/DeviceDoc/25080A.pdf; ComponentLink4Description: Product URL; ComponentLink4URL: http://www.microchip.com/SST25VF020B
footprint MCHP-SOIC-SA8_N (SOIC, 8-Leads, Body 4.9x3.9mm, Pitch 1.27mm, IPC Medium Density)
footprint MCHP-SOIC-SA8_L (SOIC, 8-Leads, Body 4.9x3.9mm, Pitch 1.27mm, IPC High Density)
footprint MCHP-SOIC-SA8_M (SOIC, 8-Leads, Body 4.9x3.9mm, Pitch 1.27mm, IPC Low Density)
pins: 1 CE# (in) "The device is enabled by a high to low transition on CE#. CE# must remain low for the duration of any command sequence.", 2 SO|RY/BY# (hiz), 3 WP# (in) "The Write Protect (WP#) pin is used to enable/disable BPL bit in the status register.", 4 VSS (power) "Ground", 5 SI (in) "To transfer commands, addresses, or data serially into the device. Inputs are latched on the rising edge of the serial clock.", 6 SCK (in) "To provide the timing of the serial interface. Commands, addresses, or input data are latched on the rising edge of the clock input, while output data is shifted out on the falling edge of the clock input.", 7 HOLD# (in) "To temporarily stop serial communication with SPI flash memory without resetting the device.", 8 VDD (power) "To provide power supply (2.7-3.6V)."

## SST25VF032B-50-4C-S2AF
designator U?
32 Mbit SPI Serial Flash, 2.7 to 3.6 V, 50 MHz, 0 to 70 degC, 8-pin SOIC (S2A8), Tube; Manufacturer: Microchip; PartNumber: SST25VF032B-50-4C-S2AF; DatasheetVersion: Rev. A; PackageVersion: Rev. A; PackageReference: SOIC-S2A8; PackageDescription: 8-Lead Plastic Small Outline Intergrated Circuit, 5.275 x 5.275 mm Body, 1.27 mm Pitch; Supplier 1: Mouser; Supplier Part Number 1: 804-25VF032B5CS2AF; Mounting Technology: Surface Mount; ComponentLink1Description: Manufacturer URL; ComponentLink1URL: http://www.microchip.com; ComponentLink2Description: Datasheet; ComponentLink2URL: http://ww1.microchip.com/downloads/en/DeviceDoc/25071A.pdf; ComponentLink3Description: Package Specification; ComponentLink3URL: http://ww1.microchip.com/downloads/en/DeviceDoc/25051A.pdf; ComponentLink4Description: Product URL; ComponentLink4URL: http://www.microchip.com/SST25VF032B
footprint MCHP-SOIC-S2A8_N (SOIC, 8-Leads, Body 5.275x5.275mm, Pitch 1.27mm, IPC Medium Density)
footprint MCHP-SOIC-S2A8_L (SOIC, 8-Leads, Body 5.275x5.275mm, Pitch 1.27mm, IPC High Density)
footprint MCHP-SOIC-S2A8_M (SOIC, 8-Leads, Body 5.275x5.275mm, Pitch 1.27mm, IPC Low Density)
pins: 1 CE# (in) "The device is enabled by a high to low transition on CE#. CE# must remain low for the duration of any command sequence.", 2 SO|RY/BY# (hiz), 3 WP# (in) "The Write Protect (WP#) pin is used to enable/disable BPL bit in the status register.", 4 VSS (power) "Ground", 5 SI (in) "To transfer commands, addresses, or data serially into the device. Inputs are latched on the rising edge of the serial clock.", 6 SCK (in) "To provide the timing of the serial interface. Commands, addresses, or input data are latched on the rising edge of the clock input, while output data is shifted out on the falling edge of the clock input.", 7 HOLD# (in) "To temporarily stop serial communication with SPI flash memory without resetting the device.", 8 VDD (power) "To provide power supply (2.7-3.6V)."

## SST25VF032B-50-4C-S2AF-T
designator U?
32 Mbit SPI Serial Flash, 2.7 to 3.6 V, 50 MHz, 0 to 70 degC, 8-pin SOIC (S2A8), Tape and Reel; Manufacturer: Microchip; PartNumber: SST25VF032B-50-4C-S2AF-T; DatasheetVersion: Rev. A; PackageVersion: Rev. A; PackageReference: SOIC-S2A8; PackageDescription: 8-Lead Plastic Small Outline Intergrated Circuit, 5.275 x 5.275 mm Body, 1.27 mm Pitch; Mounting Technology: Surface Mount; ComponentLink1Description: Manufacturer URL; ComponentLink1URL: http://www.microchip.com; ComponentLink2Description: Datasheet; ComponentLink2URL: http://ww1.microchip.com/downloads/en/DeviceDoc/25071A.pdf; ComponentLink3Description: Package Specification; ComponentLink3URL: http://ww1.microchip.com/downloads/en/DeviceDoc/25051A.pdf; ComponentLink4Description: Product URL; ComponentLink4URL: http://www.microchip.com/SST25VF032B
footprint MCHP-SOIC-S2A8_N (SOIC, 8-Leads, Body 5.275x5.275mm, Pitch 1.27mm, IPC Medium Density)
footprint MCHP-SOIC-S2A8_L (SOIC, 8-Leads, Body 5.275x5.275mm, Pitch 1.27mm, IPC High Density)
footprint MCHP-SOIC-S2A8_M (SOIC, 8-Leads, Body 5.275x5.275mm, Pitch 1.27mm, IPC Low Density)
pins: 1 CE# (in) "The device is enabled by a high to low transition on CE#. CE# must remain low for the duration of any command sequence.", 2 SO|RY/BY# (hiz), 3 WP# (in) "The Write Protect (WP#) pin is used to enable/disable BPL bit in the status register.", 4 VSS (power) "Ground", 5 SI (in) "To transfer commands, addresses, or data serially into the device. Inputs are latched on the rising edge of the serial clock.", 6 SCK (in) "To provide the timing of the serial interface. Commands, addresses, or input data are latched on the rising edge of the clock input, while output data is shifted out on the falling edge of the clock input.", 7 HOLD# (in) "To temporarily stop serial communication with SPI flash memory without resetting the device.", 8 VDD (power) "To provide power supply (2.7-3.6V)."

## SST25VF032B-50-4I-S2AF
designator U?
32 Mbit SPI Serial Flash, 2.7 to 3.6 V, 50 MHz, -40 to 85 degC, 8-pin SOIC (S2A8), Tube; Manufacturer: Microchip; PartNumber: SST25VF032B-50-4I-S2AF; DatasheetVersion: Rev. A; PackageVersion: Rev. A; PackageReference: SOIC-S2A8; PackageDescription: 8-Lead Plastic Small Outline Intergrated Circuit, 5.275 x 5.275 mm Body, 1.27 mm Pitch; Mounting Technology: Surface Mount; ComponentLink1Description: Manufacturer URL; ComponentLink1URL: http://www.microchip.com; ComponentLink2Description: Datasheet; ComponentLink2URL: http://ww1.microchip.com/downloads/en/DeviceDoc/25071A.pdf; ComponentLink3Description: Package Specification; ComponentLink3URL: http://ww1.microchip.com/downloads/en/DeviceDoc/25051A.pdf; ComponentLink4Description: Product URL; ComponentLink4URL: http://www.microchip.com/SST25VF032B
footprint MCHP-SOIC-S2A8_N (SOIC, 8-Leads, Body 5.275x5.275mm, Pitch 1.27mm, IPC Medium Density)
footprint MCHP-SOIC-S2A8_L (SOIC, 8-Leads, Body 5.275x5.275mm, Pitch 1.27mm, IPC High Density)
footprint MCHP-SOIC-S2A8_M (SOIC, 8-Leads, Body 5.275x5.275mm, Pitch 1.27mm, IPC Low Density)
pins: 1 CE# (in) "The device is enabled by a high to low transition on CE#. CE# must remain low for the duration of any command sequence.", 2 SO|RY/BY# (hiz), 3 WP# (in) "The Write Protect (WP#) pin is used to enable/disable BPL bit in the status register.", 4 VSS (power) "Ground", 5 SI (in) "To transfer commands, addresses, or data serially into the device. Inputs are latched on the rising edge of the serial clock.", 6 SCK (in) "To provide the timing of the serial interface. Commands, addresses, or input data are latched on the rising edge of the clock input, while output data is shifted out on the falling edge of the clock input.", 7 HOLD# (in) "To temporarily stop serial communication with SPI flash memory without resetting the device.", 8 VDD (power) "To provide power supply (2.7-3.6V)."